# Altium schematic symbol library znerdiodeBatt.SchLib: 1 symbol
Pins are listed as number, name and electrical type; pins without a type are passive.

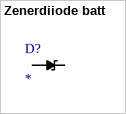
[diagram p0: symbol Zenerdiiode batt]

## Zenerdiiode batt
designator D?
pins: 1, 2